# EAGLE library part ARJE-0034 (library con-RJ45)
RJ45 Single Port, Tap Up, SMD, 100 Base-T
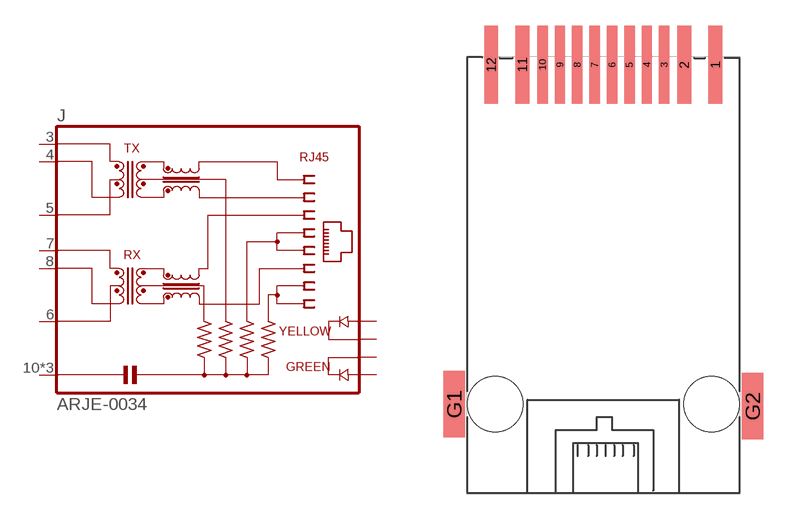
[diagram p2: symbol with the pads of ARJE-0034; footprint ARJE-0034]

Designator prefix J

## ARJE-0034 (DIGIKEY: 535-12443-1-ND)  [ARJE-0034]
1  1
2  2
3  3  pas
4  4  pas
5  5  pas
6  6  pas
7  7  pas
8  8  pas
10  10  pas
11  11
12  12
G1  10  pas
G2  10  pas

## Footprint ARJE-0034 (pad centres in mm)
RJ45 MAG JAG Abracon
smd 0.81 x 4.6: 1 6.58,19.93; 2 4.75,19.93; 11 -4.75,19.93; 12 -6.58,19.93
smd 0.61 x 4.597: 3 3.57,19.93; 4 2.55,19.93; 5 1.53,19.93; 6 0.51,19.93; 7 -0.51,19.93; 8 -1.53,19.93; 9 -2.55,19.93
smd 0.61 x 4.6: 10 -3.57,19.93
smd 1.27 x 3.912: G1 -8.763,0; G2 8.763,-0.127
hole 3.25 at -6.35,0
hole 3.25 at 6.35,0